# Altium footprint library UM-64NNP.PcbLib: 8 footprints
Each footprint in its own frame and in the unit in brackets; x right, y up, seen from the top. Pads: shape width x height; smd on the part's side, far side on the other; paste and mask are expansions set on the pad; w line width, h text height; cw(c..) or ccw(c..) is an arc to the next point about the centre after c.
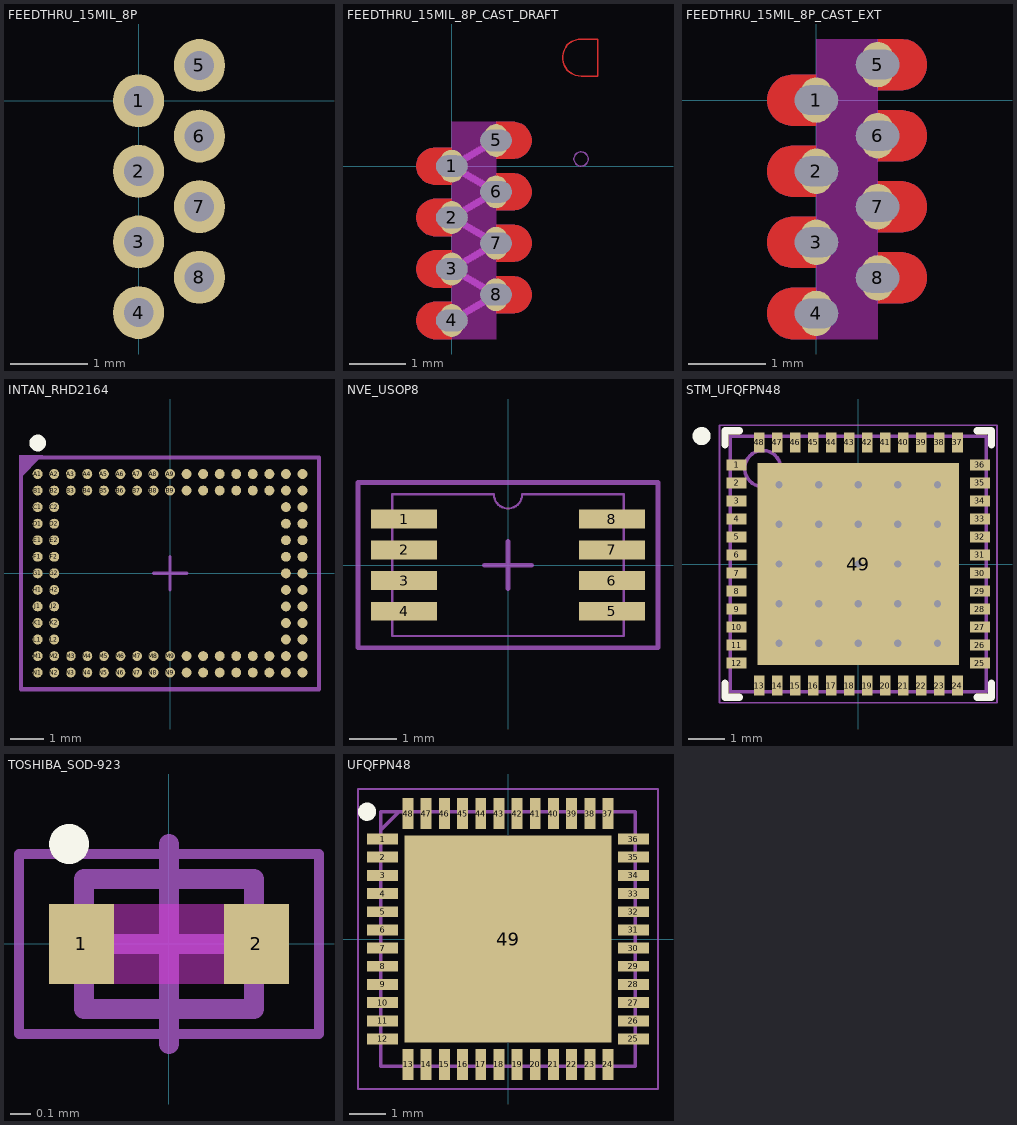
[diagram p0: the footprints below, top view; thin cyan lines are the x and y axes]

## FEEDTHRU_15MIL_8P [mil] "Feedthrough, 8 pin"
pads (8):
  oval 26x27 hole 15 mask+2: 1(0,0) 2(0,-36) 3(0,-72) 4(0,-108) 5(31,18) 6(31,-18) 7(31,-54) 8(31,-90)

## FEEDTHRU_15MIL_8P_CAST_DRAFT [mil] "Feedthrough, 8 pin, DO NOT USE ON PCB"
pads (8):
  oval 16x23 hole 15 slot 22 at 0 deg: 1(0,0) 2(0,-36) 3(0,-72) 4(0,-108) 5(31,18) 6(31,-18) 7(31,-54) 8(31,-90)
Top Layer:
  region: -11.81,-13 -13.09,-13 -15.6,-12.5 -17.97,-11.52 -20.1,-10.1 -21.91,-8.29 -23.33,-6.16 -24.31,-3.79 -24.81,-1.28 -24.81,1.28 -24.31,3.79 -23.33,6.16 -21.91,8.29 -20.1,10.1 -17.97,11.52 -15.6,12.5 -13.09,13 -11.81,13 0,13 0,-13
  region: -11.81,-49 -13.09,-49 -15.6,-48.5 -17.97,-47.52 -20.1,-46.1 -21.91,-44.29 -23.33,-42.16 -24.31,-39.79 -24.81,-37.28 -24.81,-34.72 -24.31,-32.21 -23.33,-29.84 -21.91,-27.71 -20.1,-25.9 -17.97,-24.48 -15.6,-23.5 -13.09,-23 -11.81,-23 0,-23 0,-49
  region: -11.81,-85 -13.09,-85 -15.6,-84.5 -17.97,-83.52 -20.1,-82.1 -21.91,-80.29 -23.33,-78.16 -24.31,-75.79 -24.81,-73.28 -24.81,-70.72 -24.31,-68.21 -23.33,-65.84 -21.91,-63.71 -20.1,-61.9 -17.97,-60.48 -15.6,-59.5 -13.09,-59 -11.81,-59 0,-59 0,-85
  region: -11.81,-121 -13.09,-121 -15.6,-120.5 -17.97,-119.52 -20.1,-118.1 -21.91,-116.29 -23.33,-114.16 -24.31,-111.79 -24.81,-109.28 -24.81,-106.72 -24.31,-104.21 -23.33,-101.84 -21.91,-99.71 -20.1,-97.9 -17.97,-96.48 -15.6,-95.5 -13.09,-95 -11.81,-95 0,-95 0,-121
  region: 42.81,31 44.09,31 46.6,30.5 48.97,29.52 51.1,28.1 52.91,26.29 54.33,24.16 55.31,21.79 55.81,19.28 55.81,16.72 55.31,14.21 54.33,11.84 52.91,9.71 51.1,7.9 48.97,6.48 46.6,5.5 44.09,5 42.81,5 31,5 31,31
  region: 42.81,-5 44.09,-5 46.6,-5.5 48.97,-6.48 51.1,-7.9 52.91,-9.71 54.33,-11.84 55.31,-14.21 55.81,-16.72 55.81,-19.28 55.31,-21.79 54.33,-24.16 52.91,-26.29 51.1,-28.1 48.97,-29.52 46.6,-30.5 44.09,-31 42.81,-31 31,-31 31,-5
  region: 42.81,-41 44.09,-41 46.6,-41.5 48.97,-42.48 51.1,-43.9 52.91,-45.71 54.33,-47.84 55.31,-50.21 55.81,-52.72 55.81,-55.28 55.31,-57.79 54.33,-60.16 52.91,-62.29 51.1,-64.1 48.97,-65.52 46.6,-66.5 44.09,-67 42.81,-67 31,-67 31,-41
  region: 42.81,-77 44.09,-77 46.6,-77.5 48.97,-78.48 51.1,-79.9 52.91,-81.71 54.33,-83.84 55.31,-86.21 55.81,-88.72 55.81,-91.28 55.31,-93.79 54.33,-96.16 52.91,-98.29 51.1,-100.1 48.97,-101.52 46.6,-102.5 44.09,-103 42.81,-103 31,-103 31,-77
  lines w1: 90.49,62.99 cw(c90.49,75.99) 90.49,88.99 102.3,88.99 102.3,62.99 90.49,62.99
Bottom Layer:
  region: -11.81,-13 -13.09,-13 -15.6,-12.5 -17.97,-11.52 -20.1,-10.1 -21.91,-8.29 -23.33,-6.16 -24.31,-3.79 -24.81,-1.28 -24.81,1.28 -24.31,3.79 -23.33,6.16 -21.91,8.29 -20.1,10.1 -17.97,11.52 -15.6,12.5 -13.09,13 -11.81,13 0,13 0,-13
  region: -11.81,-49 -13.09,-49 -15.6,-48.5 -17.97,-47.52 -20.1,-46.1 -21.91,-44.29 -23.33,-42.16 -24.31,-39.79 -24.81,-37.28 -24.81,-34.72 -24.31,-32.21 -23.33,-29.84 -21.91,-27.71 -20.1,-25.9 -17.97,-24.48 -15.6,-23.5 -13.09,-23 -11.81,-23 0,-23 0,-49
  region: -11.81,-85 -13.09,-85 -15.6,-84.5 -17.97,-83.52 -20.1,-82.1 -21.91,-80.29 -23.33,-78.16 -24.31,-75.79 -24.81,-73.28 -24.81,-70.72 -24.31,-68.21 -23.33,-65.84 -21.91,-63.71 -20.1,-61.9 -17.97,-60.48 -15.6,-59.5 -13.09,-59 -11.81,-59 0,-59 0,-85
  region: -11.81,-121 -13.09,-121 -15.6,-120.5 -17.97,-119.52 -20.1,-118.1 -21.91,-116.29 -23.33,-114.16 -24.31,-111.79 -24.81,-109.28 -24.81,-106.72 -24.31,-104.21 -23.33,-101.84 -21.91,-99.71 -20.1,-97.9 -17.97,-96.48 -15.6,-95.5 -13.09,-95 -11.81,-95 0,-95 0,-121
  region: 42.81,31 44.09,31 46.6,30.5 48.97,29.52 51.1,28.1 52.91,26.29 54.33,24.16 55.31,21.79 55.81,19.28 55.81,16.72 55.31,14.21 54.33,11.84 52.91,9.71 51.1,7.9 48.97,6.48 46.6,5.5 44.09,5 42.81,5 31,5 31,31
  region: 42.81,-5 44.09,-5 46.6,-5.5 48.97,-6.48 51.1,-7.9 52.91,-9.71 54.33,-11.84 55.31,-14.21 55.81,-16.72 55.81,-19.28 55.31,-21.79 54.33,-24.16 52.91,-26.29 51.1,-28.1 48.97,-29.52 46.6,-30.5 44.09,-31 42.81,-31 31,-31 31,-5
  region: 42.81,-41 44.09,-41 46.6,-41.5 48.97,-42.48 51.1,-43.9 52.91,-45.71 54.33,-47.84 55.31,-50.21 55.81,-52.72 55.81,-55.28 55.31,-57.79 54.33,-60.16 52.91,-62.29 51.1,-64.1 48.97,-65.52 46.6,-66.5 44.09,-67 42.81,-67 31,-67 31,-41
  region: 42.81,-77 44.09,-77 46.6,-77.5 48.97,-78.48 51.1,-79.9 52.91,-81.71 54.33,-83.84 55.31,-86.21 55.81,-88.72 55.81,-91.28 55.31,-93.79 54.33,-96.16 52.91,-98.29 51.1,-100.1 48.97,-101.52 46.6,-102.5 44.09,-103 42.81,-103 31,-103 31,-77
Keep-Out Layer:
  board cut-out: 0,31 31,31 31,-121 0,-121
Mechanical 1:
  circle w1: c90.49,5 r5
  lines w5: 0,-108 31,-90 0,-72 31,-54 0,-36 31,-18 0,0 31,18

## FEEDTHRU_15MIL_8P_CAST_EXT [mil] "Feedthrough, 8 pin"
pads (8):
  oval 16x23 hole 15 slot 22 at 0 deg: 1(0,0) 2(0,-36) 3(0,-72) 4(0,-108) 5(31,18) 6(31,-18) 7(31,-54) 8(31,-90)
Top Layer:
  region: 42.81,-77 44.09,-77 46.6,-77.5 48.97,-78.48 51.1,-79.9 52.91,-81.71 54.33,-83.84 55.31,-86.21 55.81,-88.72 55.81,-91.28 55.31,-93.79 54.33,-96.16 52.91,-98.29 51.1,-100.1 48.97,-101.52 46.6,-102.5 44.09,-103 42.81,-103 31,-103 31,-77
  region: 42.81,-41 44.09,-41 46.6,-41.5 48.97,-42.48 51.1,-43.9 52.91,-45.71 54.33,-47.84 55.31,-50.21 55.81,-52.72 55.81,-55.28 55.31,-57.79 54.33,-60.16 52.91,-62.29 51.1,-64.1 48.97,-65.52 46.6,-66.5 44.09,-67 42.81,-67 31,-67 31,-41
  region: 42.81,-5 44.09,-5 46.6,-5.5 48.97,-6.48 51.1,-7.9 52.91,-9.71 54.33,-11.84 55.31,-14.21 55.81,-16.72 55.81,-19.28 55.31,-21.79 54.33,-24.16 52.91,-26.29 51.1,-28.1 48.97,-29.52 46.6,-30.5 44.09,-31 42.81,-31 31,-31 31,-5
  region: 42.81,31 44.09,31 46.6,30.5 48.97,29.52 51.1,28.1 52.91,26.29 54.33,24.16 55.31,21.79 55.81,19.28 55.81,16.72 55.31,14.21 54.33,11.84 52.91,9.71 51.1,7.9 48.97,6.48 46.6,5.5 44.09,5 42.81,5 31,5 31,31
  region: -11.81,-121 -13.09,-121 -15.6,-120.5 -17.97,-119.52 -20.1,-118.1 -21.91,-116.29 -23.33,-114.16 -24.31,-111.79 -24.81,-109.28 -24.81,-106.72 -24.31,-104.21 -23.33,-101.84 -21.91,-99.71 -20.1,-97.9 -17.97,-96.48 -15.6,-95.5 -13.09,-95 -11.81,-95 0,-95 0,-121
  region: -11.81,-85 -13.09,-85 -15.6,-84.5 -17.97,-83.52 -20.1,-82.1 -21.91,-80.29 -23.33,-78.16 -24.31,-75.79 -24.81,-73.28 -24.81,-70.72 -24.31,-68.21 -23.33,-65.84 -21.91,-63.71 -20.1,-61.9 -17.97,-60.48 -15.6,-59.5 -13.09,-59 -11.81,-59 0,-59 0,-85
  region: -11.81,-49 -13.09,-49 -15.6,-48.5 -17.97,-47.52 -20.1,-46.1 -21.91,-44.29 -23.33,-42.16 -24.31,-39.79 -24.81,-37.28 -24.81,-34.72 -24.31,-32.21 -23.33,-29.84 -21.91,-27.71 -20.1,-25.9 -17.97,-24.48 -15.6,-23.5 -13.09,-23 -11.81,-23 0,-23 0,-49
  region: -11.81,-13 -13.09,-13 -15.6,-12.5 -17.97,-11.52 -20.1,-10.1 -21.91,-8.29 -23.33,-6.16 -24.31,-3.79 -24.81,-1.28 -24.81,1.28 -24.31,3.79 -23.33,6.16 -21.91,8.29 -20.1,10.1 -17.97,11.52 -15.6,12.5 -13.09,13 -11.81,13 0,13 0,-13
Bottom Layer:
  region: 42.81,-77 44.09,-77 46.6,-77.5 48.97,-78.48 51.1,-79.9 52.91,-81.71 54.33,-83.84 55.31,-86.21 55.81,-88.72 55.81,-91.28 55.31,-93.79 54.33,-96.16 52.91,-98.29 51.1,-100.1 48.97,-101.52 46.6,-102.5 44.09,-103 42.81,-103 31,-103 31,-77
  region: 42.81,-41 44.09,-41 46.6,-41.5 48.97,-42.48 51.1,-43.9 52.91,-45.71 54.33,-47.84 55.31,-50.21 55.81,-52.72 55.81,-55.28 55.31,-57.79 54.33,-60.16 52.91,-62.29 51.1,-64.1 48.97,-65.52 46.6,-66.5 44.09,-67 42.81,-67 31,-67 31,-41
  region: 42.81,-5 44.09,-5 46.6,-5.5 48.97,-6.48 51.1,-7.9 52.91,-9.71 54.33,-11.84 55.31,-14.21 55.81,-16.72 55.81,-19.28 55.31,-21.79 54.33,-24.16 52.91,-26.29 51.1,-28.1 48.97,-29.52 46.6,-30.5 44.09,-31 42.81,-31 31,-31 31,-5
  region: 42.81,31 44.09,31 46.6,30.5 48.97,29.52 51.1,28.1 52.91,26.29 54.33,24.16 55.31,21.79 55.81,19.28 55.81,16.72 55.31,14.21 54.33,11.84 52.91,9.71 51.1,7.9 48.97,6.48 46.6,5.5 44.09,5 42.81,5 31,5 31,31
  region: -11.81,-121 -13.09,-121 -15.6,-120.5 -17.97,-119.52 -20.1,-118.1 -21.91,-116.29 -23.33,-114.16 -24.31,-111.79 -24.81,-109.28 -24.81,-106.72 -24.31,-104.21 -23.33,-101.84 -21.91,-99.71 -20.1,-97.9 -17.97,-96.48 -15.6,-95.5 -13.09,-95 -11.81,-95 0,-95 0,-121
  region: -11.81,-85 -13.09,-85 -15.6,-84.5 -17.97,-83.52 -20.1,-82.1 -21.91,-80.29 -23.33,-78.16 -24.31,-75.79 -24.81,-73.28 -24.81,-70.72 -24.31,-68.21 -23.33,-65.84 -21.91,-63.71 -20.1,-61.9 -17.97,-60.48 -15.6,-59.5 -13.09,-59 -11.81,-59 0,-59 0,-85
  region: -11.81,-49 -13.09,-49 -15.6,-48.5 -17.97,-47.52 -20.1,-46.1 -21.91,-44.29 -23.33,-42.16 -24.31,-39.79 -24.81,-37.28 -24.81,-34.72 -24.31,-32.21 -23.33,-29.84 -21.91,-27.71 -20.1,-25.9 -17.97,-24.48 -15.6,-23.5 -13.09,-23 -11.81,-23 0,-23 0,-49
  region: -11.81,-13 -13.09,-13 -15.6,-12.5 -17.97,-11.52 -20.1,-10.1 -21.91,-8.29 -23.33,-6.16 -24.31,-3.79 -24.81,-1.28 -24.81,1.28 -24.31,3.79 -23.33,6.16 -21.91,8.29 -20.1,10.1 -17.97,11.52 -15.6,12.5 -13.09,13 -11.81,13 0,13 0,-13
Keep-Out Layer:
  board cut-out: 0,31 31,31 31,-121 0,-121

## INTAN_RHD2164 [mm] "BGA104_9X7, 0.5MM pitch"
pads (104):
  rrect100% 0.3x0.3 smd: A1(-4,3) A2(-3.5,3) A3(-3,3) A4(-2.5,3) A5(-2,3) A6(-1.5,3) A7(-1,3) A8(-0.5,3) A9(0,3) A10(0.5,3) A11(1,3) A12(1.5,3) A13(2,3) A14(2.5,3) A15(3,3) A16(3.5,3) A17(4,3) B1(-4,2.5) B2(-3.5,2.5) B3(-3,2.5) B4(-2.5,2.5) B5(-2,2.5) B6(-1.5,2.5) B7(-1,2.5) B8(-0.5,2.5) B9(0,2.5) B10(0.5,2.5) B11(1,2.5) B12(1.5,2.5) B13(2,2.5) B14(2.5,2.5) B15(3,2.5) B16(3.5,2.5) B17(4,2.5) C1(-4,2) C2(-3.5,2) C16(3.5,2) C17(4,2) D1(-4,1.5) D2(-3.5,1.5) D16(3.5,1.5) D17(4,1.5) E1(-4,1) E2(-3.5,1) E16(3.5,1) E17(4,1) F1(-4,0.5) F2(-3.5,0.5) F16(3.5,0.5) F17(4,0.5) G1(-4,0) G2(-3.5,0) G16(3.5,0) G17(4,0) H1(-4,-0.5) H2(-3.5,-0.5) H16(3.5,-0.5) H17(4,-0.5) J1(-4,-1) J2(-3.5,-1) J16(3.5,-1) J17(4,-1) K1(-4,-1.5) K2(-3.5,-1.5) K16(3.5,-1.5) K17(4,-1.5) L1(-4,-2) L2(-3.5,-2) L16(3.5,-2) L17(4,-2) M1(-4,-2.5) M2(-3.5,-2.5) M3(-3,-2.5) M4(-2.5,-2.5) M5(-2,-2.5) M6(-1.5,-2.5) M7(-1,-2.5) M8(-0.5,-2.5) M9(0,-2.5) M10(0.5,-2.5) M11(1,-2.5) M12(1.5,-2.5) M13(2,-2.5) M14(2.5,-2.5) M15(3,-2.5) M16(3.5,-2.5) M17(4,-2.5) N1(-4,-3) N2(-3.5,-3) N3(-3,-3) N4(-2.5,-3) N5(-2,-3) N6(-1.5,-3) N7(-1,-3) N8(-0.5,-3) N9(0,-3) N10(0.5,-3) N11(1,-3) N12(1.5,-3) N13(2,-3) N14(2.5,-3) N15(3,-3) N16(3.5,-3) N17(4,-3)
Top Overlay:
  circle w0.254: c-4,3.937 r0.127
Top Assembly (Mech11):
  region: -4.564,3.564 -4.564,2.847 -3.847,3.564
  lines w0.127: -4.5,-3.5 4.5,-3.5 4.5,3.5 -4.5,3.5 -4.5,-3.5
Top Courtyard:
  lines w0.1: -0.5,0 0.5,0 ; 0,-0.5 0,0.5
3D body: height 1.5, standoff 0, extent -4.5,-3.52 4.5,3.5

## NVE_USOP8 [mm] "8-Lead uSOP 3mm x 3 mm package"
height 1.1
pads (8):
  rect 1.4x0.4 smd: 1(-2.2,0.975) 2(-2.2,0.325) 3(-2.2,-0.325) 4(-2.2,-0.975) 5(2.2,-0.975) 6(2.2,-0.325) 7(2.2,0.325) 8(2.2,0.975)
Top Assembly (Mech11):
  lines w0.05: -2.45,-1.5 -2.45,1.5 -0.3,1.5 ccw(c0,1.5) 0.3,1.5 2.45,1.5 2.45,-1.5 -2.45,-1.5
  text "1" at -3.1,0.8 h0.5
Top Courtyard:
  lines w0.1: -0.5,0 0.5,0 ; 0,-0.5 0,0.5 ; -3.175,-1.75 -3.175,1.75 3.175,1.75 3.175,-1.75 -3.175,-1.75
3D body "MSOP-8.step": height 1.15, standoff 0, extent -2.45,-1.5 2.45,1.5

## STM_UFQFPN48 [mm] "QFN, 48-Leads, Body 7.00x7.00mm, Pitch 0.50mm, Thermal Pad 5.60x5.60mm, IPC High Density"
height 0.6
pads (49):
  rect 0.55x0.3 smd: 1(-3.375,2.75) 2(-3.375,2.25) 3(-3.375,1.75) 4(-3.375,1.25) 5(-3.375,0.75) 6(-3.375,0.25) 7(-3.375,-0.25) 8(-3.375,-0.75) 9(-3.375,-1.25) 10(-3.375,-1.75) 11(-3.375,-2.25) 12(-3.375,-2.75) 25(3.375,-2.75) 26(3.375,-2.25) 27(3.375,-1.75) 28(3.375,-1.25) 29(3.375,-0.75) 30(3.375,-0.25) 31(3.375,0.25) 32(3.375,0.75) 33(3.375,1.25) 34(3.375,1.75) 35(3.375,2.25) 36(3.375,2.75)
  rect 0.3x0.55 smd: 13(-2.75,-3.375) 14(-2.25,-3.375) 15(-1.75,-3.375) 16(-1.25,-3.375) 17(-0.75,-3.375) 18(-0.25,-3.375) 19(0.25,-3.375) 20(0.75,-3.375) 21(1.25,-3.375) 22(1.75,-3.375) 23(2.25,-3.375) 24(2.75,-3.375) 37(2.75,3.375) 38(2.25,3.375) 39(1.75,3.375) 40(1.25,3.375) 41(0.75,3.375) 42(0.25,3.375) 43(-0.25,3.375) 44(-0.75,3.375) 45(-1.25,3.375) 46(-1.75,3.375) 47(-2.25,3.375) 48(-2.75,3.375)
  rect 5.6x5.6 smd: 49(0,0)
via -2.2,2.2 diameter 0.508 hole 0.203
via -1.1,2.2 diameter 0.508 hole 0.203
via 0,2.2 diameter 0.508 hole 0.203
via 1.1,2.2 diameter 0.508 hole 0.203
via 2.2,2.2 diameter 0.508 hole 0.203
via -2.2,1.1 diameter 0.508 hole 0.203
via -1.1,1.1 diameter 0.508 hole 0.203
via 0,1.1 diameter 0.508 hole 0.203
via 1.1,1.1 diameter 0.508 hole 0.203
via 2.2,1.1 diameter 0.508 hole 0.203
via -2.2,0 diameter 0.508 hole 0.203
via -1.1,0 diameter 0.508 hole 0.203
via 0,0 diameter 0.508 hole 0.203
via 1.1,0 diameter 0.508 hole 0.203
via 2.2,0 diameter 0.508 hole 0.203
via -2.2,-1.1 diameter 0.508 hole 0.203
via -1.1,-1.1 diameter 0.508 hole 0.203
via 0,-1.1 diameter 0.508 hole 0.203
via 1.1,-1.1 diameter 0.508 hole 0.203
via 2.2,-1.1 diameter 0.508 hole 0.203
via -2.2,-2.2 diameter 0.508 hole 0.203
via -1.1,-2.2 diameter 0.508 hole 0.203
via 0,-2.2 diameter 0.508 hole 0.203
via 1.1,-2.2 diameter 0.508 hole 0.203
via 2.2,-2.2 diameter 0.508 hole 0.203
Top Overlay:
  circle w0.25: c-4.35,3.55 r0.125
  lines w0.2: -3.7,-3.3 -3.7,-3.7 -3.3,-3.7 ; -3.7,3.3 -3.7,3.7 -3.3,3.7 ; 3.3,-3.7 3.7,-3.7 3.7,-3.3 ; 3.3,3.7 3.7,3.7 3.7,3.3
Top 3D Body:
  circle w0.1: c-2.65,2.65 r0.5
  lines w0.1: -3.55,-3.55 -3.55,3.55 3.55,3.55 3.55,-3.55 -3.55,-3.55
Top Courtyard:
  lines w0.05: -3.85,-3.85 -3.85,3.85 3.85,3.85 3.85,-3.85 -3.85,-3.85
  lines w0.1: -0.5,0 0.5,0 ; 0,-0.5 0,0.5
3D body "STM_UFQFPN48.step": height 0.6, standoff 0, extent -3.6,-3.6 3.6,3.6

## TOSHIBA_SOD-923 [mm] "SODFL, 2-Leads, Body 0.60x1.00mm, IPC High Density"
height 0.45
pads (2):
  rect 0.325x0.4 smd: 1(-0.437,0) 2(0.437,0)
Top Overlay:
  circle w0.1: c-0.5,0.5 r0.05
Keep-Out Layer:
  rectangle: -0.275,-0.2 0.275,0.2
Top Assembly (Mech11):
  lines w0.1: -0.425,-0.325 -0.425,0.325 0.425,0.325 0.425,-0.325 -0.425,-0.325
Top Courtyard:
  lines w0.05: -0.75,-0.45 -0.75,0.45 0.75,0.45 0.75,-0.45 -0.75,-0.45
  lines w0.1: -0.5,0 0.5,0 ; 0,-0.5 0,0.5
3D body "TOSHIBA_SOD-923.step": height 0.45, standoff 0, extent -0.5,-0.325 0.5,0.325

## UFQFPN48 [mm]
pads (49):
  rect 0.85x0.3 smd: 1(-3.45,2.75) 2(-3.45,2.25) 3(-3.45,1.75) 4(-3.45,1.25) 5(-3.45,0.75) 6(-3.45,0.25) 7(-3.45,-0.25) 8(-3.45,-0.75) 9(-3.45,-1.25) 10(-3.45,-1.75) 11(-3.45,-2.25) 12(-3.45,-2.75) 25(3.45,-2.75) 26(3.45,-2.25) 27(3.45,-1.75) 28(3.45,-1.25) 29(3.45,-0.75) 30(3.45,-0.25) 31(3.45,0.25) 32(3.45,0.75) 33(3.45,1.25) 34(3.45,1.75) 35(3.45,2.25) 36(3.45,2.75)
  rect 0.3x0.85 smd: 13(-2.75,-3.45) 14(-2.25,-3.45) 15(-1.75,-3.45) 16(-1.25,-3.45) 17(-0.75,-3.45) 18(-0.25,-3.45) 19(0.25,-3.45) 20(0.75,-3.45) 21(1.25,-3.45) 22(1.75,-3.45) 23(2.25,-3.45) 24(2.75,-3.45) 37(2.75,3.45) 38(2.25,3.45) 39(1.75,3.45) 40(1.25,3.45) 41(0.75,3.45) 42(0.25,3.45) 43(-0.25,3.45) 44(-0.75,3.45) 45(-1.25,3.45) 46(-1.75,3.45) 47(-2.25,3.45) 48(-2.75,3.45)
  rect 5.7x5.7 smd: 49(0,0)
Top Overlay:
  circle w0.25: c-3.875,3.5 r0.125
Top Assembly (Mech11):
  lines w0.1: -3.5,3 -3,3.5 ; -3.5,-3.5 3.5,-3.5 3.5,3.5 -3.5,3.5 -3.5,-3.5
Top Courtyard:
  lines w0.05: -4.125,-4.125 4.125,-4.125 4.125,4.125 -4.125,4.125 -4.125,-4.125
3D body "STM32U585CIU6Q.stp": height 0.65, standoff 0, extent -3.55,-3.55 3.55,3.55